# Altium footprint library HardWare.PcbLib: 173 footprints (part 1 of 11)
Each footprint in its own frame and in the unit in brackets; x right, y up, seen from the top. Pads: shape width x height; smd on the part's side, far side on the other; paste and mask are expansions set on the pad; w line width, h text height; cw(c..) or ccw(c..) is an arc to the next point about the centre after c.
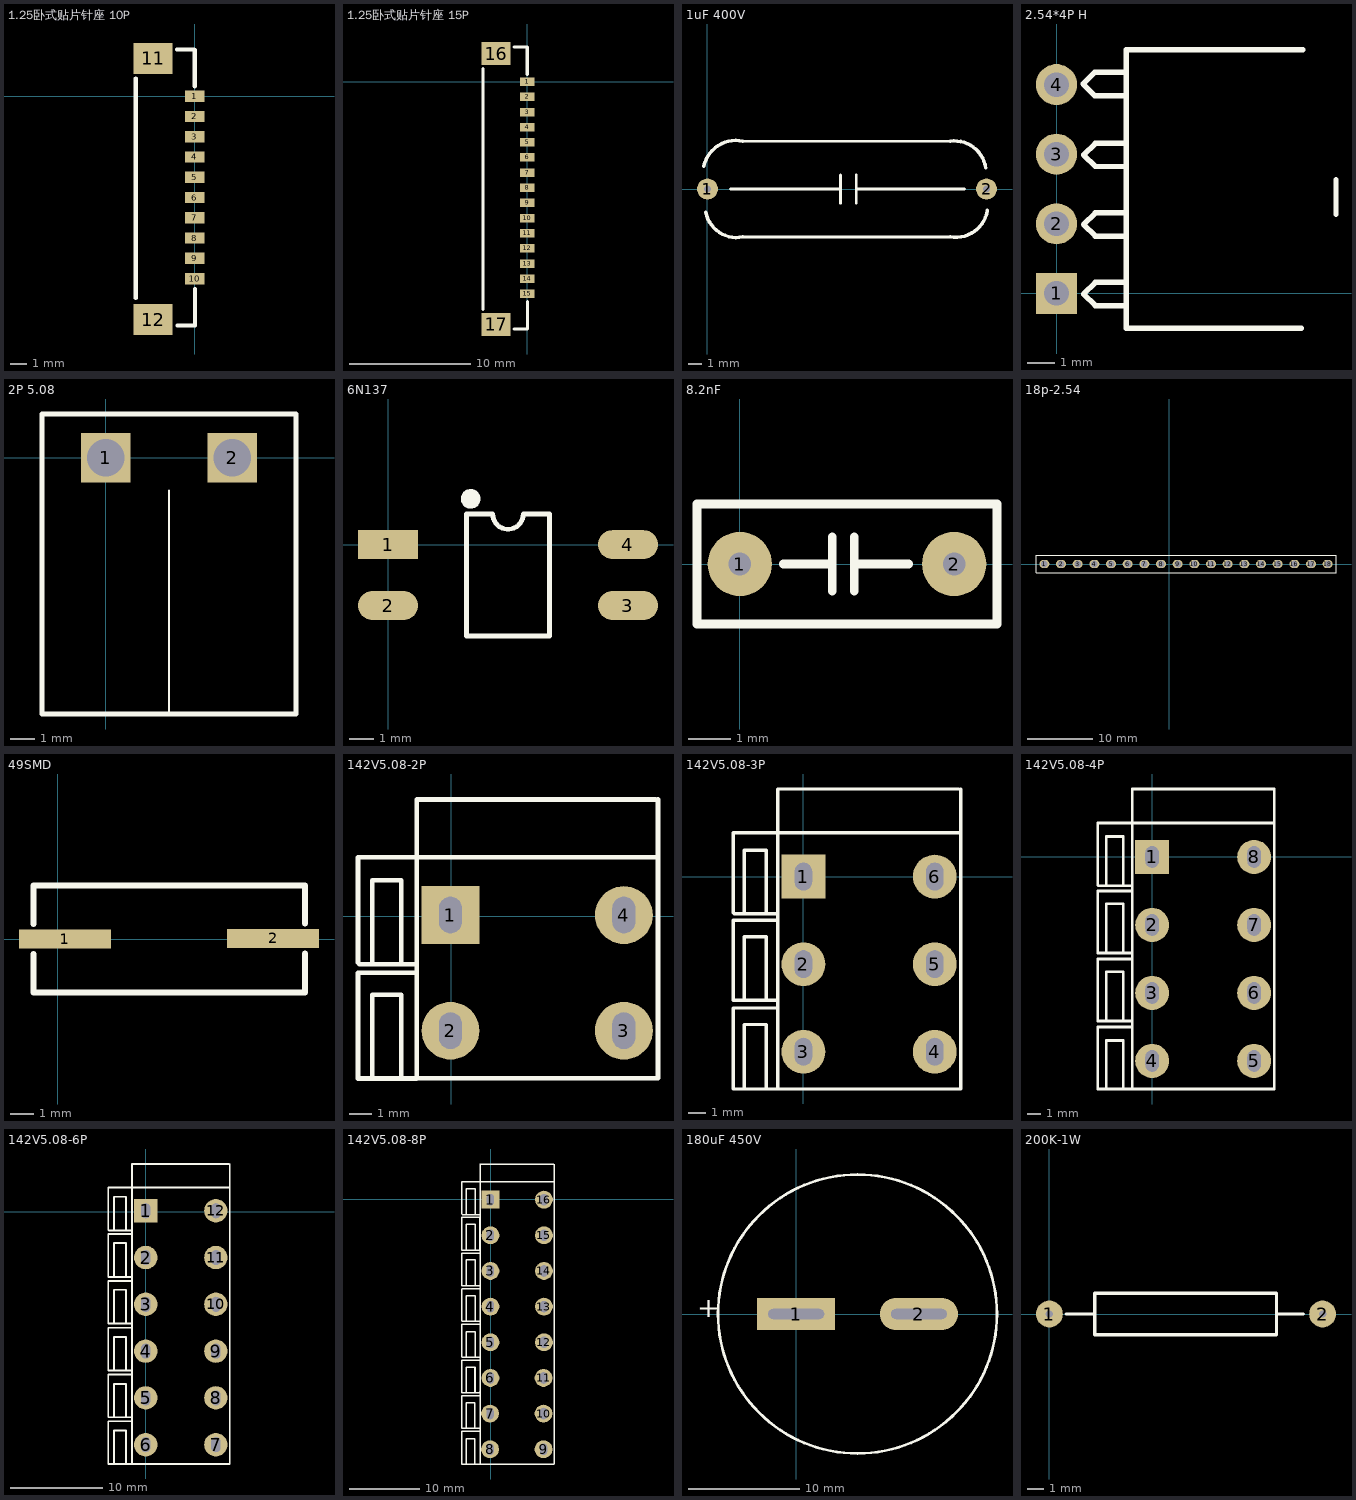
[diagram p0: the footprints below, top view; thin cyan lines are the x and y axes]

## 1.25卧式贴片针座 10P [mm]
pads (12):
  rect 1.18x0.7 smd: 1(0,0) 2(0,-1.25) 3(0,-2.5) 4(0,-3.75) 5(0,-5) 6(0,-6.25) 7(0,-7.5) 8(0,-8.75) 9(0,-10) 10(0,-11.25)
  rect 2.4x1.9 smd: 11(-2.56,2.325) 12(-2.56,-13.775)
Top Overlay:
  lines w0.254: -3.632,-12.446 -3.632,1.092 ; -1.092,2.87 -0.025,2.87 0,2.845 0,0.61 ; -1.067,-14.146 0.025,-14.146 0.025,-11.886

## 1.25卧式贴片针座 15P [mm]
pads (17):
  rect 1.18x0.7 smd: 1(0,0) 2(0,-1.25) 3(0,-2.5) 4(0,-3.75) 5(0,-5) 6(0,-6.25) 7(0,-7.5) 8(0,-8.75) 9(0,-10) 10(0,-11.25) 11(0,-12.5) 12(0,-13.75) 13(0,-15) 14(0,-16.25) 15(0,-17.5)
  rect 2.4x1.9 smd: 16(-2.56,2.325) 17(-2.56,-20.025)
Top Overlay:
  lines w0.254: -3.632,-18.771 -3.632,1.092 ; -1.092,2.87 -0.025,2.87 0,2.845 0,0.61 ; -1.067,-20.396 0.025,-20.396 0.025,-18.136

## 1uF 400V [mm] "脚距20MM"
pads (2):
  round 1.5 hole 0.5: 1(0,0) 2(20,0)
Top Overlay:
  lines w0.2: 1.651,0 9.398,0 ; 2.54,-3.429 17.399,-3.429 ; 2.54,3.429 17.399,3.429 ; 9.525,-1.016 9.525,1.016 ; 10.668,-1.016 10.668,1.016 ; 10.795,0 18.415,0
  lines w0.254: -0.254,1.651 cw(c2.032,1.143) 2.54,3.429 ; -0.127,-1.651 ccw(c2.095,-1.206) 2.54,-3.429 ; 17.399,-3.429 ccw(c17.78,-1.143) 20.066,-1.524 ; 17.399,3.429 cw(c17.717,1.206) 19.939,1.524

## 2.54*4P H [mm] "2.54 4P弯座"
pads (4):
  rect 1.5x1.5 hole 0.9: 1(0,0)
  round 1.5 hole 0.9: 2(0,2.54) 3(0,5.08) 4(0,7.62)
Top Overlay:
  lines w0.2: 2.54,-0.449 1.414,-0.449 0.991,-0.025 1.414,0.398 2.54,0.398 ; 2.54,2.091 1.414,2.091 0.991,2.515 1.414,2.938 2.54,2.938 ; 2.54,4.631 1.414,4.631 0.991,5.055 1.414,5.478 2.54,5.478 ; 2.54,7.222 1.389,7.222 0.965,7.645 1.389,8.069 2.54,8.069 ; 8.941,-1.27 2.54,-1.27 2.54,8.89 8.981,8.89 ; 10.2,2.896 10.2,4.14

## 2P 5.08 [mm]
pads (2):
  rect 2x2 hole 1.5: 1(0,0) 2(5.08,0)
Top Overlay:
  lines w0.1: 2.54,-10.262 2.54,-1.321
  lines w0.2: -2.56,-10.3 7.64,-10.3 7.64,1.76 -2.56,1.76 -2.56,-10.287

## 6N137 [mm]
pads (4):
  rect 2.5x1.2 smd: 1(0,0)
  oval 2.5x1.2 smd: 2(0,-2.54) 3(10,-2.54) 4(10,0)
Top Overlay:
  circle w0.254: c3.446,1.905 r0.284
  rectangle: 3.222,1.651 3.603,2.159
  lines w0.2: 3.275,-3.81 6.725,-3.81 6.725,1.27 5.635,1.27 cw(c5,1.27) 4.365,1.27 3.275,1.27 3.275,-3.81

## 8.2nF [mm] "7mm*2.8mm*6mm 脚距5mm"
height 6
pads (2):
  round 1.5 hole 0.53: 1(0,0) 2(5,0)
Top Overlay:
  lines w0.2: 1.016,0 2.159,0 ; 2.159,-0.635 2.159,0.635 ; 2.667,-0.635 2.667,0.635 ; 2.667,0 3.937,0 ; -1,-1.4 -1,1.4 6,1.4 6,-1.4 -1,-1.4

## 18p-2.54 [mil] "MT7688-18p"
pads (18):
  oval 60x50 hole 40 mask+1.97: 1(-750,0) 2(-650,0) 3(-550,0) 4(-450,0) 5(-350,0) 6(-250,0) 7(-150,0) 8(-50,0) 9(50,0) 10(150,0) 11(250,0) 12(350,0) 13(450,0) 14(550,0) 15(650,0) 16(750,0) 17(850,0) 18(950,0)
Top Overlay:
  lines w3.94: -800,-51.18 1000,-51.18 1000,51.18 -800,51.18 ; -800,-51.15 -800,51.1

## 49SMD [mm] "贴片大晶振"
height 4.4
pads (2):
  rect 3.86x0.8 smd: 1(0.3,0) 2(9.04,0.024)
Top Overlay:
  lines w0.254: -1.026,-0.635 -1.026,-2.25 10.379,-2.25 10.379,-0.612 ; -1.026,0.635 -1.026,2.235 ; -1.026,2.25 10.379,2.25 10.379,0.644

## 142V5.08-2P [mil]
pads (4):
  rect 100x100 hole 39.37 slot 63 at 90 deg: 1(-1,2)
  round 100 hole 39.37 slot 63 at 90 deg: 2(-1,-198) 3(299,-198) 4(299,2)
Top Overlay:
  lines w7.84: -161,-280.68 -136,-280.68 ; -59.27,-83 -59.27,-97.61 -59,-278
  lines w7.87: -161,-280.68 -161,-98 -59.66,-98 -59.66,-280.68 -136,-280.68 -136,-135.68 -86,-135.68 -86,-280.68 ; -161,-280 358.06,-280 358.06,202 ; -161,-80.68 -161,102 -151,102 354,102 ; -158.68,-83 -59.66,-83 ; -136,-83 -136,62 -86,62 -86,-83 ; -59.66,202 354,202 ; -59.27,-83 -59.27,202

## 142V5.08-3P [mm]
pads (6):
  rect 2.54x2.54 hole 1 slot 1.6 at 90 deg: 1(0,0)
  round 2.54 hole 1 slot 1.6 at 90 deg: 2(0,-5.08) 3(0,-10.16) 4(7.62,-10.16) 5(7.62,-5.08) 6(7.62,0)
Top Overlay:
  lines w0.199: -4.064,-7.18 -3.429,-7.18 ; -1.48,-7.874 -1.48,-2.53 -1.48,-2.159
  lines w0.2: -4.064,-12.319 9.12,-12.319 9.12,5.08 ; -4.064,-12.26 -4.064,-7.62 -1.49,-7.62 ; -4.064,-7.18 -4.064,-2.54 -1.49,-2.54 -1.49,-7.18 -3.429,-7.18 -3.429,-3.497 -2.159,-3.497 -2.159,-7.18 ; -4.064,-2.1 -4.064,2.54 -3.81,2.54 9.017,2.54 ; -4.005,-2.159 -1.49,-2.159 ; -3.429,-12.26 -3.429,-8.577 -2.159,-8.577 -2.159,-12.26 ; -3.429,-2.159 -3.429,1.524 -2.159,1.524 -2.159,-2.159 ; -1.49,5.08 9.017,5.08 ; -1.48,-12.26 -1.48,-7.62 ; -1.48,-2.159 -1.48,5.08

## 142V5.08-4P [mm]
pads (8):
  rect 2.54x2.54 hole 1 slot 1.6 at 90 deg: 1(0,0)
  round 2.54 hole 1 slot 1.6 at 90 deg: 2(0,-5.08) 3(0,-10.16) 4(0,-15.24) 5(7.62,-15.24) 6(7.62,-10.16) 7(7.62,-5.08) 8(7.62,0)
Top Overlay:
  lines w0.199: -4.064,-7.18 -3.429,-7.18 ; -1.524,-17.34 -1.48,-17.296 -1.48,-12.26 ; -1.48,-7.874 -1.48,-2.53 -1.48,-2.159
  lines w0.2: -4.064,-12.759 -4.064,-17.34 9.12,-17.34 9.12,5.08 ; -4.064,-12.7 -1.49,-12.7 ; -4.064,-7.18 -4.064,-2.54 -1.49,-2.54 -1.49,-7.18 -3.429,-7.18 -3.429,-3.497 -2.159,-3.497 -2.159,-7.18 ; -4.064,-2.1 -4.064,2.54 -3.81,2.54 9.017,2.54 ; -4.039,-17.34 -1.524,-17.34 ; -4.005,-2.159 -1.49,-2.159 ; -3.429,-17.34 -3.429,-13.716 -2.159,-13.716 -2.159,-17.34 ; -3.429,-12.26 -3.429,-8.577 -2.159,-8.577 -2.159,-12.26 ; -3.429,-2.159 -3.429,1.524 -2.159,1.524 -2.159,-2.159 ; -1.49,-7.62 -4.064,-7.62 -4.064,-12.26 -1.48,-12.26 -1.48,-7.62 ; -1.49,5.08 9.017,5.08 ; -1.48,-2.159 -1.48,5.08

## 142V5.08-6P [mm]
pads (12):
  rect 2.54x2.54 hole 1 slot 1.6 at 90 deg: 1(0,0.127)
  round 2.54 hole 1 slot 1.6 at 90 deg: 2(0,-4.953) 3(0,-10.033) 4(0,-15.113) 5(0,-20.193) 6(0,-25.273) 7(7.62,-25.273) 8(7.62,-20.193) 9(7.62,-15.113) 10(7.62,-10.033) 11(7.62,-4.953) 12(7.62,0.127)
Top Overlay:
  lines w0.199: -4.064,-7.053 -3.429,-7.053 ; -1.524,-27.373 -1.48,-27.329 -1.48,-22.293 -1.48,-17.213 ; -1.524,-17.213 -1.48,-17.169 -1.48,-12.133 ; -1.48,-7.747 -1.48,-2.403 -1.48,-2.032
  lines w0.2: -4.064,-22.293 -4.064,-17.653 -1.49,-17.653 ; -4.064,-17.213 -4.064,-12.632 ; -4.064,-12.573 -1.49,-12.573 ; -4.064,-7.053 -4.064,-2.413 -1.49,-2.413 -1.49,-7.053 -3.429,-7.053 -3.429,-3.37 -2.159,-3.37 -2.159,-7.053 ; -4.064,-1.973 -4.064,2.667 -3.81,2.667 9.017,2.667 ; -4.039,-27.373 -1.524,-27.373 ; -4.039,-22.293 -1.48,-22.293 ; -4.039,-17.213 -1.524,-17.213 ; -4.005,-2.032 -1.49,-2.032 ; -3.429,-27.373 -3.429,-23.749 -2.159,-23.749 -2.159,-27.373 ; -3.429,-22.293 -3.429,-18.669 -2.159,-18.669 -2.159,-22.293 ; -3.429,-17.213 -3.429,-13.589 -2.159,-13.589 -2.159,-17.213 ; -3.429,-12.133 -3.429,-8.45 -2.159,-8.45 -2.159,-12.133 ; -3.429,-2.032 -3.429,1.651 -2.159,1.651 -2.159,-2.032 ; -1.49,-22.733 -4.064,-22.733 -4.064,-27.373 9.12,-27.373 9.12,5.207 ; -1.49,-7.493 -4.064,-7.493 -4.064,-12.133 -1.48,-12.133 -1.48,-7.493 ; -1.49,5.207 9.017,5.207 ; -1.48,-2.032 -1.48,5.207

## 142V5.08-8P [mil]
pads (16):
  rect 100x100 hole 39.37 slot 63 at 90 deg: 1(-1,-1)
  round 100 hole 39.37 slot 63 at 90 deg: 2(-1,-201) 3(-1,-401) 4(-1,-601) 5(-1,-801) 6(-1,-1001) 7(-3,-1201) 8(-3,-1401) 9(297,-1401) 10(297,-1201) 11(297,-1001) 12(299,-801) 13(299,-601) 14(299,-401) 15(299,-201) 16(299,-1)
Top Overlay:
  lines w7.84: -161,-283.68 -136,-283.68 ; -63,-1083.68 -61.27,-1081.94 ; -61,-683.68 -59.27,-681.94 -59.27,-483.68 ; -59.27,-683.68 -59.27,-883.68 -59.27,-1081.94 -59,-1082.21 -59,-1281.41 -59,-1479.68 ; -59.27,-311 -59.27,-100.61 -59.27,-86
  lines w7.87: -163,-1283.68 -163,-1101 -61.66,-1101 ; -163,-1083.68 -163,-903.32 ; -163,-901 -61.66,-901 ; -162.02,-1483.68 -63,-1483.68 ; -162.02,-1283.68 -61.27,-1283.68 ; -162.02,-1083.68 -63,-1083.68 ; -161,-1083.68 -161,-901 -59.66,-901 ; -161,-883.68 -161,-701 -59.66,-701 ; -161,-683.68 -161,-503.32 ; -161,-501 -59.66,-501 ; -161,-283.68 -161,-101 -59.66,-101 -59.66,-283.68 -136,-283.68 -136,-138.68 -86,-138.68 -86,-283.68 ; -161,-83.68 -161,99 -151,99 354,99 ; -160.02,-1083.68 -61,-1083.68 ; -160.02,-883.68 -59.27,-883.68 ; -160.02,-683.68 -61,-683.68 ; -158.68,-86 -59.66,-86 ; -138,-1483.68 -138,-1341 -88,-1341 -88,-1483.68 ; -138,-1283.68 -138,-1141 -88,-1141 -88,-1283.68 ; -138,-1083.68 -138,-941 -88,-941 -88,-1083.68 ; -136,-1083.68 -136,-941 -86,-941 -86,-1083.68 ; -136,-883.68 -136,-741 -86,-741 -86,-883.68 ; -136,-683.68 -136,-541 -86,-541 -86,-683.68 ; -136,-483.68 -136,-338.68 -86,-338.68 -86,-483.68 ; -136,-86 -136,59 -86,59 -86,-86 ; -61.66,-1301 -163,-1301 -163,-1483.68 356.06,-1483.68 ; -59.66,-301 -161,-301 -161,-483.68 -59.27,-483.68 -59.27,-301 ; -59.66,199 354,199 ; -59.27,-86 -59.27,199 ; 358.06,-1483.68 358.06,199

## 180uF 450V [mm] "引脚直径5mm   间距11MM左右    电容直径25*40"
height 40
pads (2):
  rect 7x2.9 hole 0.9 slot 5 at 0 deg: 1(0,0)
  oval 7x2.9 hole 0.9 slot 5 at 0 deg: 2(11,0)
Top Overlay:
  circle w0.254: c5.5,0 r12.5
  text "+" at -8.89,-0.889 h3.06

## 200K-1W [mil]
pads (2):
  round 65 hole 18.11: 1(0,0) 2(661.42,0)
Top Overlay:
  lines w7.87: 40,0 110,0 ; 550,0 615,0 ; 110,-50 550,-50 550,50 110,50 110,-50